# Altium schematic symbol library my-common.SchLib: 9 symbols
Pins are listed as number, name and electrical type; pins without a type are passive.

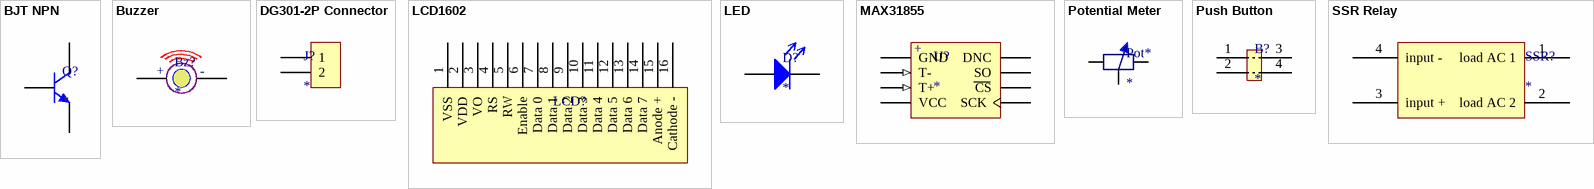
[diagram p0: symbols BJT NPN to SSR Relay]

## BJT NPN
designator Q?
BJT NPN; value: S9013
footprint BJT TOP92
pins: b, c, e

## Buzzer
designator Bz?
Piezo Buzzer
footprint Buzzer
pins: 1 +, 2 -

## DG301-2P Connector
designator J?
DG301-2P Connector
footprint DG301-2P Connector
pins: 1, 2

## LCD1602
designator LCD?  (value not drawn)
LCD 1602
footprint LCD1602
pins: 1 VSS (power), 2 VDD (power), 3 VO "contrast voltage", 4 RS "Register Select", 5 RW "Read Write", 6 Enable, 7 Data 0, 8 Data 1, 9 Data 2, 10 Data 3, 11 Data 4, 12 Data 5, 13 Data 6, 14 Data 7, 15 Anode + (power) "Back Light Anode", 16 Cathode - (power) "Back Light Cathode"

## LED
designator D?
LED
footprint LED TOP92; pin to pad 1>P 2>N
pins: 1 "Anode", 2 "Cathode"

## MAX31855
designator U?
K thermal-couple reading IC
footprint SOP8 Breakout (SOP8 to Through Hole with 100mil pitch.)
pins: 1 GND (power), 2 T- (in), 3 T+ (in), 4 VCC (power), 5 SCK (power), 6 CS, 7 SO "Serial Data Output. M.Input S.Output for SPI.", 8 DNC "Do Not Connect"
text: +

## Potential Meter
designator Pot*
Potential Meter
footprint Axial ThrimPot
pins: 1, 2, 3

## Push Button
designator B?
Push Button
footprint push button
pins: 1, 2, 3, 4

## SSR Relay
designator SSR?
Single Phase Solid Relay-SSR
pins: 1 load AC 1, 2 load AC 2, 3 input +, 4 input -